# Altium schematic symbol library 5.0 - 1.00mm连接器(FPC1.0_SH1.0_1.0排针排母).SchLib: 19 symbols
Pins are listed as number, name and electrical type; pins without a type are passive.

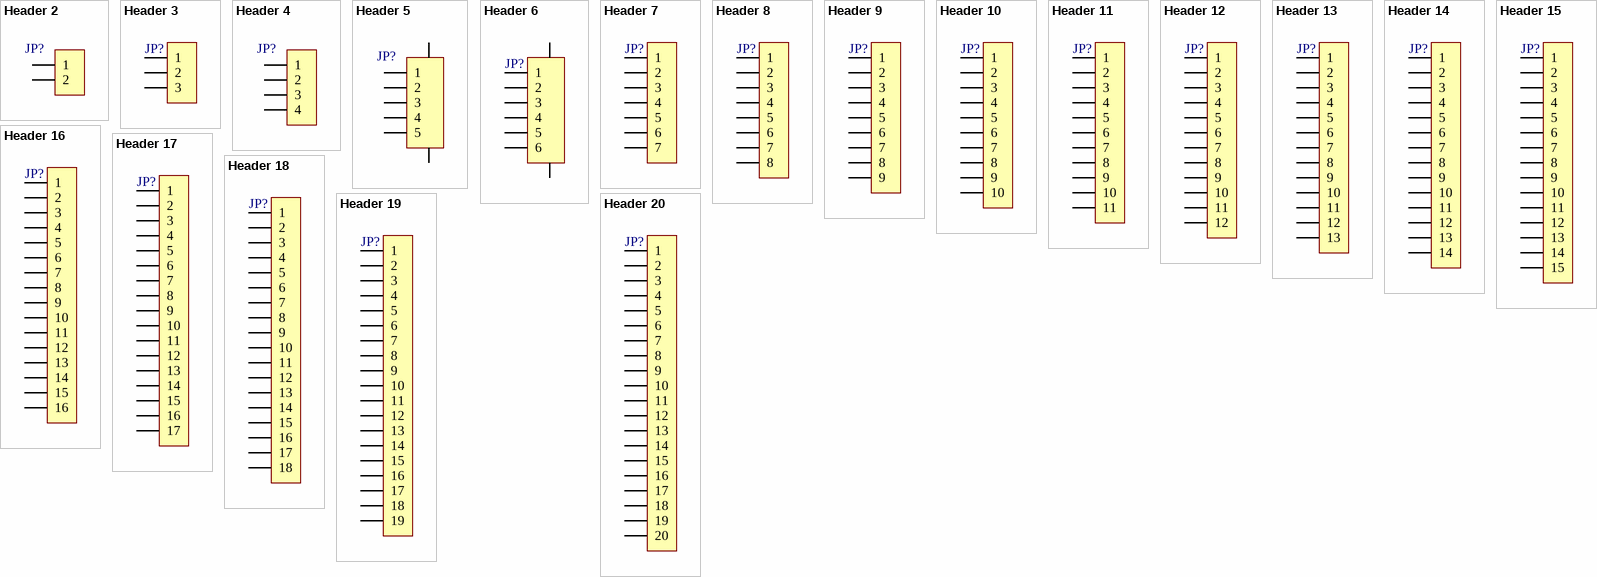
[diagram p0: symbols Header 2 to Header 20]

## Header 2
designator JP?, comment CON-2P  (value not drawn)
2P连接器; 封装库来自淘宝卖家：黄晶宝石: 获取最新版本https://shop463601444.taobao.com; BOM名称: 2P连接器
footprint FPC1.0-WT-2P (卧贴翻盖FPC，脚距1mm，不含脚（长6.9mm，宽5.2mm，高1.96mm）)
footprint SH1.0-LT-2P (SH1.0连接器-立贴-2P)
footprint SH1.0-WT-2P (SH1.0连接器-卧贴-2P)
pins: 1, 2

## Header 3
designator JP?, comment CON-3P  (value not drawn)
3P连接器; 封装库来自淘宝卖家：黄晶宝石: 获取最新版本https://shop463601444.taobao.com; BOM名称: 3P连接器
footprint FPC1.0-WT-3P (卧贴翻盖FPC，脚距1mm，不含脚（长7.9mm，宽5.2mm，高1.96mm）)
footprint SH1.0-LT-3P (SH1.0连接器-立贴-3P)
footprint SH1.0-WT-3P (SH1.0连接器-卧贴-3P)
pins: 1, 2, 3

## Header 4
designator JP?, comment CON-4P  (value not drawn)
4P连接器; 封装库来自淘宝卖家：黄晶宝石: 获取最新版本https://shop463601444.taobao.com; BOM名称: 4P连接器
footprint FPC1.0-WT-4P (卧贴翻盖FPC，脚距1mm，不含脚（长8.9mm，宽5.2mm，高1.96mm）)
footprint SH1.0-LT-4P (SH1.0连接器-立贴-4P)
footprint SH1.0-WT-4P (SH1.0连接器-卧贴-4P          来自淘宝卖家ID：黄晶宝石)
pins: 1, 2, 3, 4

## Header 5
designator JP?, comment CON-5P  (value not drawn)
5P连接器; 封装库来自淘宝卖家：黄晶宝石: 获取最新版本https://shop463601444.taobao.com; BOM名称: 5P连接器
footprint FPC1.0-WT-5P (卧贴翻盖FPC，脚距1mm，不含脚（长9.9mm，宽5.2mm，高1.96mm）)
footprint SH1.0-WT-5P (SH1.0连接器-卧贴-5P          来自淘宝卖家ID：黄晶宝石)
footprint SH1.0-LT-5P (SH1.0连接器-立贴-5P)
pins: 0, 0, 1, 2, 3, 4, 5

## Header 6
designator JP?, comment CON-6P  (value not drawn)
6P连接器; 封装库来自淘宝卖家：黄晶宝石: 获取最新版本https://shop463601444.taobao.com; BOM名称: 6P连接器
footprint FPC1.0-WT-6P (卧贴翻盖FPC，脚距1mm，不含脚（长10.9mm，宽5.2mm，高1.96mm）)
footprint SH1.0-WT-6P (SH1.0连接器-卧贴-6P      来自淘宝卖家ID：黄晶宝石)
footprint SH1.0-LT-6P (SH1.0连接器-立贴-6P       来自淘宝卖家ID：黄晶宝石)
pins: 0, 0, 1, 2, 3, 4, 5, 6

## Header 7
designator JP?, comment CON-6P  (value not drawn)
7P连接器; 封装库来自淘宝卖家：黄晶宝石: 获取最新版本https://shop463601444.taobao.com; BOM名称: 7P连接器
footprint FPC1.0-WT-7P (卧贴翻盖FPC，脚距1mm，不含脚（长11.9mm，宽5.2mm，高1.96mm）)
footprint SH1.0-WT-7P (SH1.0连接器-卧贴-7P)
footprint SH1.0-LT-7P (SH1.0连接器-立贴-7P      来自淘宝卖家ID：黄晶宝石)
pins: 1, 2, 3, 4, 5, 6, 7

## Header 8
designator JP?, comment CON-8P  (value not drawn)
8P连接器; 封装库来自淘宝卖家：黄晶宝石: 获取最新版本https://shop463601444.taobao.com; BOM名称: 8P连接器
footprint FPC1.0-WT-8P (卧贴翻盖FPC，脚距1mm，不含脚（长12.9mm，宽5.2mm，高1.96mm）黄晶宝石)
footprint SH1.0-WT-8P (SH1.0连接器-卧贴-8P)
footprint SH1.0-LT-8P (SH1.0连接器-立贴-8P)
pins: 1, 2, 3, 4, 5, 6, 7, 8

## Header 9
designator JP?, comment CON-9P  (value not drawn)
9P连接器; 封装库来自淘宝卖家：黄晶宝石: 获取最新版本https://shop463601444.taobao.com; BOM名称: 9P连接器
footprint FPC1.0-WT-9P (卧贴翻盖FPC，脚距1mm，不含脚（长13.9mm，宽5.2mm，高1.96mm）)
footprint SH1.0-WT-9P (SH1.0连接器-卧贴-9P      来自淘宝卖家ID：黄晶宝石)
footprint SH1.0-LT-9P (SH1.0连接器-立贴-9P      来自淘宝卖家ID：黄晶宝石)
pins: 1, 2, 3, 4, 5, 6, 7, 8, 9

## Header 10
designator JP?, comment CON-10P  (value not drawn)
10P连接器; 封装库来自淘宝卖家：黄晶宝石: 获取最新版本https://shop463601444.taobao.com; BOM名称: 10P连接器
footprint FPC1.0-WT-10P (卧贴翻盖FPC，脚距1mm，不含脚（长14.9mm，宽5.2mm，高1.96mm）黄晶宝石)
footprint SH1.0-WT-10P (SH1.0连接器-卧贴-10P      来自淘宝卖家ID：黄晶宝石)
footprint SH1.0-LT-10P (SH1.0连接器-立贴-10P      来自淘宝卖家ID：黄晶宝石)
pins: 1, 2, 3, 4, 5, 6, 7, 8, 9, 10

## Header 11
designator JP?, comment CON-11P  (value not drawn)
11P连接器; 封装库来自淘宝卖家：黄晶宝石: 获取最新版本https://shop463601444.taobao.com; BOM名称: 11P连接器
footprint FPC1.0-WT-11P (卧贴翻盖FPC，脚距1mm，不含脚（长15.9mm，宽5.2mm，高1.96mm）)
footprint SH1.0-WT-11P (SH1.0连接器-卧贴-11P                  联系卖家 免费查找封装)
footprint SH1.0-LT-11P (SH1.0连接器-立贴-11P      来自淘宝卖家ID：黄晶宝石)
pins: 1, 2, 3, 4, 5, 6, 7, 8, 9, 10, 11

## Header 12
designator JP?, comment CON-12P  (value not drawn)
12P连接器; 封装库来自淘宝卖家：黄晶宝石: 获取最新版本https://shop463601444.taobao.com; BOM名称: 12P连接器
footprint FPC1.0-WT-12P (卧贴翻盖FPC，脚距1mm，不含脚（长16.9mm，宽5.2mm，高1.96mm）黄晶宝石)
pins: 1, 2, 3, 4, 5, 6, 7, 8, 9, 10, 11, 12

## Header 13
designator JP?, comment CON-13P  (value not drawn)
13P连接器; 封装库来自淘宝卖家：黄晶宝石: 获取最新版本https://shop463601444.taobao.com; BOM名称: 13P连接器
footprint FPC1.0-WT-13P (卧贴翻盖FPC，脚距1mm，不含脚（长17.9mm，宽5.2mm，高1.96mm）)
pins: 1, 2, 3, 4, 5, 6, 7, 8, 9, 10, 11, 12, 13

## Header 14
designator JP?, comment CON-14P  (value not drawn)
14P连接器; 封装库来自淘宝卖家：黄晶宝石: 获取最新版本https://shop463601444.taobao.com; BOM名称: 14P连接器
footprint FPC1.0-WT-14P (卧贴翻盖FPC，脚距1mm，不含脚（长18.9mm，宽5.2mm，高1.96mm）)
pins: 1, 2, 3, 4, 5, 6, 7, 8, 9, 10, 11, 12, 13, 14

## Header 15
designator JP?, comment CON-15P  (value not drawn)
15P连接器; 封装库来自淘宝卖家：黄晶宝石: 获取最新版本https://shop463601444.taobao.com; BOM名称: 15P连接器
footprint FPC1.0-WT-15P (卧贴翻盖FPC，脚距1mm，不含脚（长19.9mm，宽5.2mm，高1.96mm）)
pins: 1, 2, 3, 4, 5, 6, 7, 8, 9, 10, 11, 12, 13, 14, 15

## Header 16
designator JP?, comment CON-16P  (value not drawn)
16P连接器; 封装库来自淘宝卖家：黄晶宝石: 获取最新版本https://shop463601444.taobao.com; BOM名称: 16P连接器
footprint FPC1.0-WT-16P (卧贴翻盖FPC，脚距1mm，不含脚（长20.9mm，宽5.2mm，高1.96mm）黄晶宝石)
pins: 1, 2, 3, 4, 5, 6, 7, 8, 9, 10, 11, 12, 13, 14, 15, 16

## Header 17
designator JP?, comment CON-17P  (value not drawn)
17P连接器; 封装库来自淘宝卖家：黄晶宝石: 获取最新版本https://shop463601444.taobao.com; BOM名称: 17P连接器
footprint FPC1.0-WT-17P (卧贴翻盖FPC，脚距1mm，不含脚（长21.9mm，宽5.2mm，高1.96mm）)
pins: 1, 2, 3, 4, 5, 6, 7, 8, 9, 10, 11, 12, 13, 14, 15, 16, 17

## Header 18
designator JP?, comment CON-18P  (value not drawn)
18P连接器; 封装库来自淘宝卖家：黄晶宝石: 获取最新版本https://shop463601444.taobao.com; BOM名称: 18P连接器
footprint FPC1.0-WT-18P (翻盖FPC，脚距1mm，不含脚（长22.9mm，宽5.2mm，高1.96mm） 淘宝ID:黄晶宝石   店铺网址:https://shop463601444.taobao.com)
pins: 1, 2, 3, 4, 5, 6, 7, 8, 9, 10, 11, 12, 13, 14, 15, 16, 17, 18

## Header 19
designator JP?, comment CON-19P  (value not drawn)
19P连接器; 封装库来自淘宝卖家：黄晶宝石: 获取最新版本https://shop463601444.taobao.com; BOM名称: 19P连接器
footprint FPC1.0-WT-19P (翻盖FPC，脚距1mm，不含脚（长23.9mm，宽5.2mm，高1.96mm）)
pins: 1, 2, 3, 4, 5, 6, 7, 8, 9, 10, 11, 12, 13, 14, 15, 16, 17, 18, 19

## Header 20
designator JP?, comment CON-20P  (value not drawn)
20P连接器; 封装库来自淘宝卖家：黄晶宝石: 获取最新版本https://shop463601444.taobao.com; BOM名称: 20P连接器
footprint FPC1.0-WT-20P (翻盖FPC，脚距1mm，不含脚（长24.9mm，宽5.2mm，高1.96mm） 淘宝ID:黄晶宝石   店铺网址:https://shop463601444.taobao.com)
pins: 1, 2, 3, 4, 5, 6, 7, 8, 9, 10, 11, 12, 13, 14, 15, 16, 17, 18, 19, 20